# Altium footprint library WSLP3921L2000FEA.PcbLib: 1 footprints
Each footprint in its own frame and in the unit in brackets; x right, y up, seen from the top. Pads: shape width x height; smd on the part's side, far side on the other; paste and mask are expansions set on the pad; w line width, h text height; cw(c..) or ccw(c..) is an arc to the next point about the centre after c.
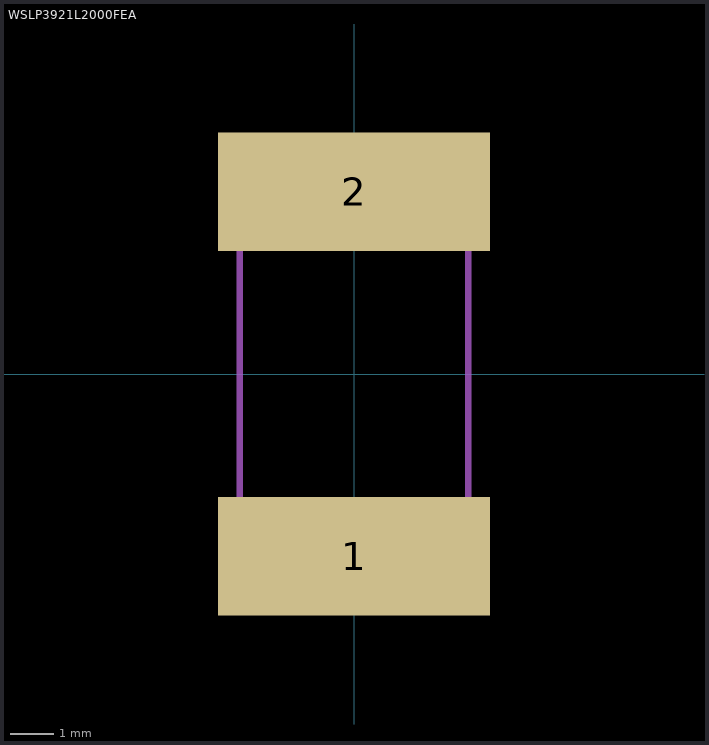
[diagram p0: the footprint, top view; thin cyan lines are the x and y axes]

## WSLP3921L2000FEA [mm]
pads (2):
  rect 6.2x2.7 smd: 1(0,-4.15) 2(0,4.15)
Mechanical 1:
  lines w0.15: -2.6,-5 2.6,-5 2.6,5 -2.6,5 -2.6,-5
3D body "WSLP3921.step": height 1.19, standoff 0, extent -2.6,-5 2.6,5